# Altium schematic symbol library WaveRadio.SchLib: 19 symbols
Pins are listed as number, name and electrical type; pins without a type are passive.

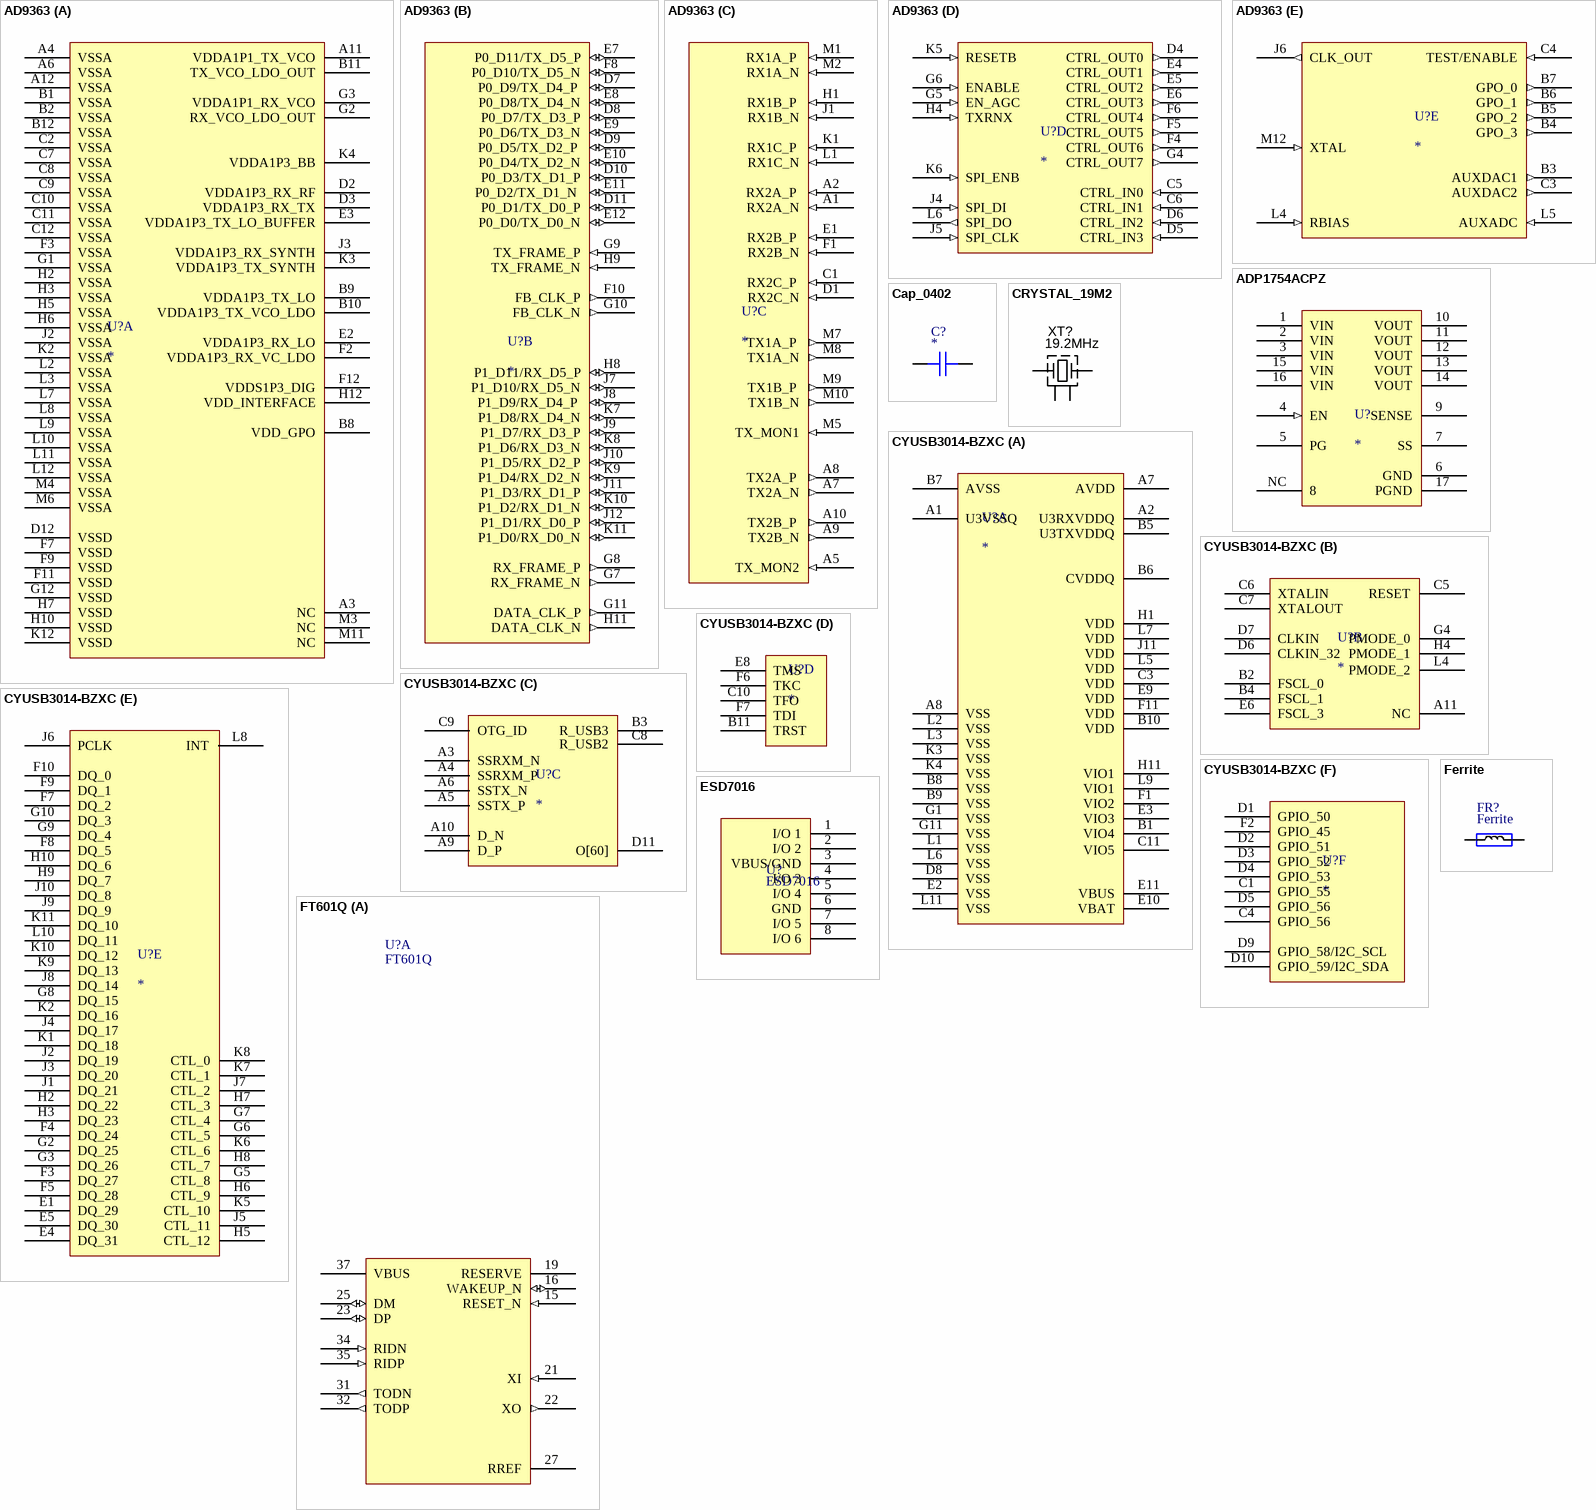
[diagram p0: symbols AD9363 to FT601Q]

## AD9363
designator U?
footprint BGA144C80P12X12_1000X1000X100 (BGA, 144-Leads, Body 10.00x10.00mmx1.00mm, Pitch 0.80mm)
part A pins: A3 NC (power), A4 VSSA (power), A6 VSSA (power), A11 VDDA1P1_TX_VCO (power), A12 VSSA (power), B1 VSSA (power), B2 VSSA (power), B8 VDD_GPO (power), B9 VDDA1P3_TX_LO (power), B10 VDDA1P3_TX_VCO_LDO (power), B11 TX_VCO_LDO_OUT (power), B12 VSSA (power), C2 VSSA (power), C7 VSSA (power), C8 VSSA (power), C9 VSSA (power), C10 VSSA (power), C11 VSSA (power), C12 VSSA (power), D2 VDDA1P3_RX_RF (power), D3 VDDA1P3_RX_TX (power), D12 VSSD (power), E2 VDDA1P3_RX_LO (power), E3 VDDA1P3_TX_LO_BUFFER (power), F2 VDDA1P3_RX_VC_LDO (power), F3 VSSA (power), F7 VSSD (power), F9 VSSD (power), F11 VSSD (power), F12 VDDS1P3_DIG (power), G1 VSSA (power), G2 RX_VCO_LDO_OUT (power), G3 VDDA1P1_RX_VCO (power), G12 VSSD (power), H2 VSSA (power), H3 VSSA (power), H5 VSSA (power), H6 VSSA (power), H7 VSSD (power), H10 VSSD (power), H12 VDD_INTERFACE (power), J2 VSSA (power), J3 VDDA1P3_RX_SYNTH (power), K2 VSSA (power), K3 VDDA1P3_TX_SYNTH (power), K4 VDDA1P3_BB (power), K12 VSSD (power), L2 VSSA (power), L3 VSSA (power), L7 VSSA (power), L8 VSSA (power), L9 VSSA (power), L10 VSSA (power), L11 VSSA (power), L12 VSSA (power), M3 NC (power), M4 VSSA (power), M6 VSSA (power), M11 NC (power)
part B pins: D7 P0_D9/TX_D4_P  (io), D8 P0_D7/TX_D3_P (io), D9 P0_D5/TX_D2_P  (io), D10 P0_D3/TX_D1_P (io), D11 P0_D1/TX_D0_P (io), E7 P0_D11/TX_D5_P (io), E8 P0_D8/TX_D4_N (io), E9 P0_D6/TX_D3_N (io), E10 P0_D4/TX_D2_N (io), E11 P0_D2/TX_D1_N  (io), E12 P0_D0/TX_D0_N (io), F8 P0_D10/TX_D5_N (io), F10 FB_CLK_P (out), G7 RX_FRAME_N (out), G8 RX_FRAME_P (out), G9 TX_FRAME_P (in), G10 FB_CLK_N (out), G11 DATA_CLK_P (out), H8 P1_D11/RX_D5_P (io), H9 TX_FRAME_N (in), H11 DATA_CLK_N (out), J7 P1_D10/RX_D5_N (io), J8 P1_D9/RX_D4_P  (io), J9 P1_D7/RX_D3_P (io), J10 P1_D5/RX_D2_P (io), J11 P1_D3/RX_D1_P (io), J12 P1_D1/RX_D0_P (io), K7 P1_D8/RX_D4_N (io), K8 P1_D6/RX_D3_N (io), K9 P1_D4/RX_D2_N (io), K10 P1_D2/RX_D1_N (io), K11 P1_D0/RX_D0_N (io)
part C pins: A1 RX2A_N (in), A2 RX2A_P  (in), A5 TX_MON2 (in), A7 TX2A_N (out), A8 TX2A_P  (out), A9 TX2B_N (out), A10 TX2B_P  (out), C1 RX2C_P  (in), D1 RX2C_N (in), E1 RX2B_P  (in), F1 RX2B_N (in), H1 RX1B_P  (in), J1 RX1B_N (in), K1 RX1C_P  (in), L1 RX1C_N (in), M1 RX1A_P  (in), M2 RX1A_N (in), M5 TX_MON1 (in), M7 TX1A_P  (out), M8 TX1A_N (out), M9 TX1B_P  (out), M10 TX1B_N (out)
part D pins: C5 CTRL_IN0 (in), C6 CTRL_IN1 (in), D4 CTRL_OUT0 (out), D5 CTRL_IN3 (in), D6 CTRL_IN2 (in), E4 CTRL_OUT1 (out), E5 CTRL_OUT2 (out), E6 CTRL_OUT3 (out), F4 CTRL_OUT6 (out), F5 CTRL_OUT5 (out), F6 CTRL_OUT4 (out), G4 CTRL_OUT7 (out), G5 EN_AGC (in), G6 ENABLE (in), H4 TXRNX (in), J4 SPI_DI (in), J5 SPI_CLK (in), K5 RESETB (in), K6 SPI_ENB (in), L6 SPI_DO (out)
part E pins: B3 AUXDAC1 (out), B4 GPO_3 (out), B5 GPO_2 (out), B6 GPO_1 (out), B7 GPO_0 (out), C3 AUXDAC2 (out), C4 TEST/ENABLE (in), J6 CLK_OUT (out), L4 RBIAS (in), L5 AUXADC (in), M12 XTAL (in)

## ADP1754ACPZ
designator U?
footprint QFN65P400X400X80_HS-17N (QFN, 16-Leads, Body 4.00x4.00mm, Pitch 0.65mm, Thermal Pad 2.10x2.10mm, IPC Medium Density)
pins: 1 VIN, 2 VIN, 3 VIN, 4 EN (in), 5 PG, 6 GND, 7 SS, 9 SENSE, 10 VOUT, 11 VOUT, 12 VOUT, 13 VOUT, 14 VOUT, 15 VIN, 16 VIN, 17 PGND, NC 8

## Cap_0402
designator C?
Value: *
footprint CAP0402 (Chip Capacitor, Body 1.0x0.5mm, 0402, IPC Medium Density)
pins: 1, 2

## CRYSTAL_19M2
designator XT?, comment 19.2MHz
Oscillator Crystal 27.12 MHz 10ppm; Manufacturer 1: TXC CORPORATION; Manufacturer Part Number 1: 7M-27.120MEEQ-T; Ratings: 4.9152 MHz Crystal; Load Capacitance: 10pF; Operating Mode: Fundamental; Package / Case: 2.5mm pitch; Material: Ceramic; Supplier 1: Digi-Key; Supplier Part Number 1: 887-1329-1-ND; Type: MHz Crystal; Frequency Stability: ±10ppm; Frequency Tolerance: ±10ppm; Operating Temperature: -20°C ~ 70°C; Mounting Type: Surface Mount; Size / Dimension: 0.126" L x 0.098" W (3.20mm x 2.50mm); ComponentLink1URL: http://www.txccrystal.com/images/pdf/7m-accuracy.pdf; ComponentLink1Description: http://www.txccrystal.com/images/pdf/7m-accuracy.pdf
footprint CRYSTAL_4-LCC (SMD Crystal 4-lead leadless package)
pins: 1 X, 2 GND, 3 X, 4 GND

## CYUSB3014-BZXC
designator U?
part A pins: A1 U3VSSQ, A2 U3RXVDDQ, A7 AVDD, A8 VSS, B1 VIO4 (power), B5 U3TXVDDQ, B6 CVDDQ, B7 AVSS, B8 VSS, B9 VSS, B10 VDD, C3 VDD, C11 VIO5, D8 VSS, E2 VSS, E3 VIO3, E9 VDD, E10 VBAT, E11 VBUS, F1 VIO2, F11 VDD, G1 VSS, G11 VSS, H1 VDD, H11 VIO1, J11 VDD, K3 VSS, K4 VSS, L1 VSS, L2 VSS, L3 VSS (power), L5 VDD, L6 VSS, L7 VDD, L9 VIO1, L11 VSS
part B pins: A11 NC, B2 FSCL_0, B4 FSCL_1, C5 RESET, C6 XTALIN, C7 XTALOUT, D6 CLKIN_32, D7 CLKIN, E6 FSCL_3, G4 PMODE_0, H4 PMODE_1, L4 PMODE_2
part C pins: A3 SSRXM_N, A4 SSRXM_P, A5 SSTX_P, A6 SSTX_N, A9 D_P, A10 D_N, B3 R_USB3, C8 R_USB2, C9 OTG_ID, D11 O[60]
part D pins: B11 TRST, C10 TFO, E8 TMS, F6 TKC, F7 TDI
part E pins: E1 DQ_29, E4 DQ_31, E5 DQ_30, F3 DQ_27, F4 DQ_24, F5 DQ_28, F7 DQ_2, F8 DQ_5, F9 DQ_1, F10 DQ_0, G2 DQ_25, G3 DQ_26, G5 CTL_8, G6 CTL_5, G7 CTL_4, G8 DQ_15, G9 DQ_4, G10 DQ_3, H2 DQ_22, H3 DQ_23, H5 CTL_12, H6 CTL_9, H7 CTL_3, H8 CTL_7, H9 DQ_7, H10 DQ_6, J1 DQ_21, J2 DQ_19, J3 DQ_20, J4 DQ_17, J5 CTL_11, J6 PCLK, J7 CTL_2, J8 DQ_14, J9 DQ_9, J10 DQ_8, K1 DQ_18, K2 DQ_16, K5 CTL_10, K6 CTL_6, K7 CTL_1, K8 CTL_0, K9 DQ_13, K10 DQ_12, K11 DQ_10, L8 INT, L10 DQ_11
part F pins: C1 GPIO_55, C4 GPIO_56, D1 GPIO_50, D2 GPIO_51, D3 GPIO_52, D4 GPIO_53, D5 GPIO_56, D9 GPIO_58/I2C_SCL, D10 GPIO_59/I2C_SDA, F2 GPIO_45

## ESD7016
designator U?
Manufacturer Part Number 1: ESD7016MUTAG; Manufacturer: ON Semiconductor; Unidirectional Channels: 8; Capacitance @ Frequency: 0.15pF @ 1MHz; Power Line Protection: No; Voltage - Reverse Standoff (Typ): 5V (Max); Voltage - Breakdown (Min): 5.5V; Current - Peak Pulse (10/1000µs): 1A (8/20µs); Voltage - Clamping (Max) @ Ipp: 10V; Supplier 1: Digi-Key; Category: Circuit Protection; RoHS: RoHS Compliant; Bidirectional Channels: -; Packaging: Digi-Reel®; Type: Zener; Operating Temperature: -55°C ~ 125°C (TJ); Mounting Type: Surface Mount; Power - Peak Pulse: -; Package / Case: 8-UFSFN; Supplier Device Package: 8-UDFN (3.3x1.0); Applications: General Purpose; Supplier Part Number 1: ESD7016MUTAGOSDKR-ND
footprint ESD7016
pins: 1 I/O 1, 2 I/O 2, 3 VBUS/GND, 4 I/O 3, 5 I/O 4, 6 GND, 7 I/O 5, 8 I/O 6

## Ferrite
designator FR?
footprint RES0402 (Chip Resistor, Body 1.0x0.5mm, EIA 0402, IPC Medium Density)
pins: 1, 2

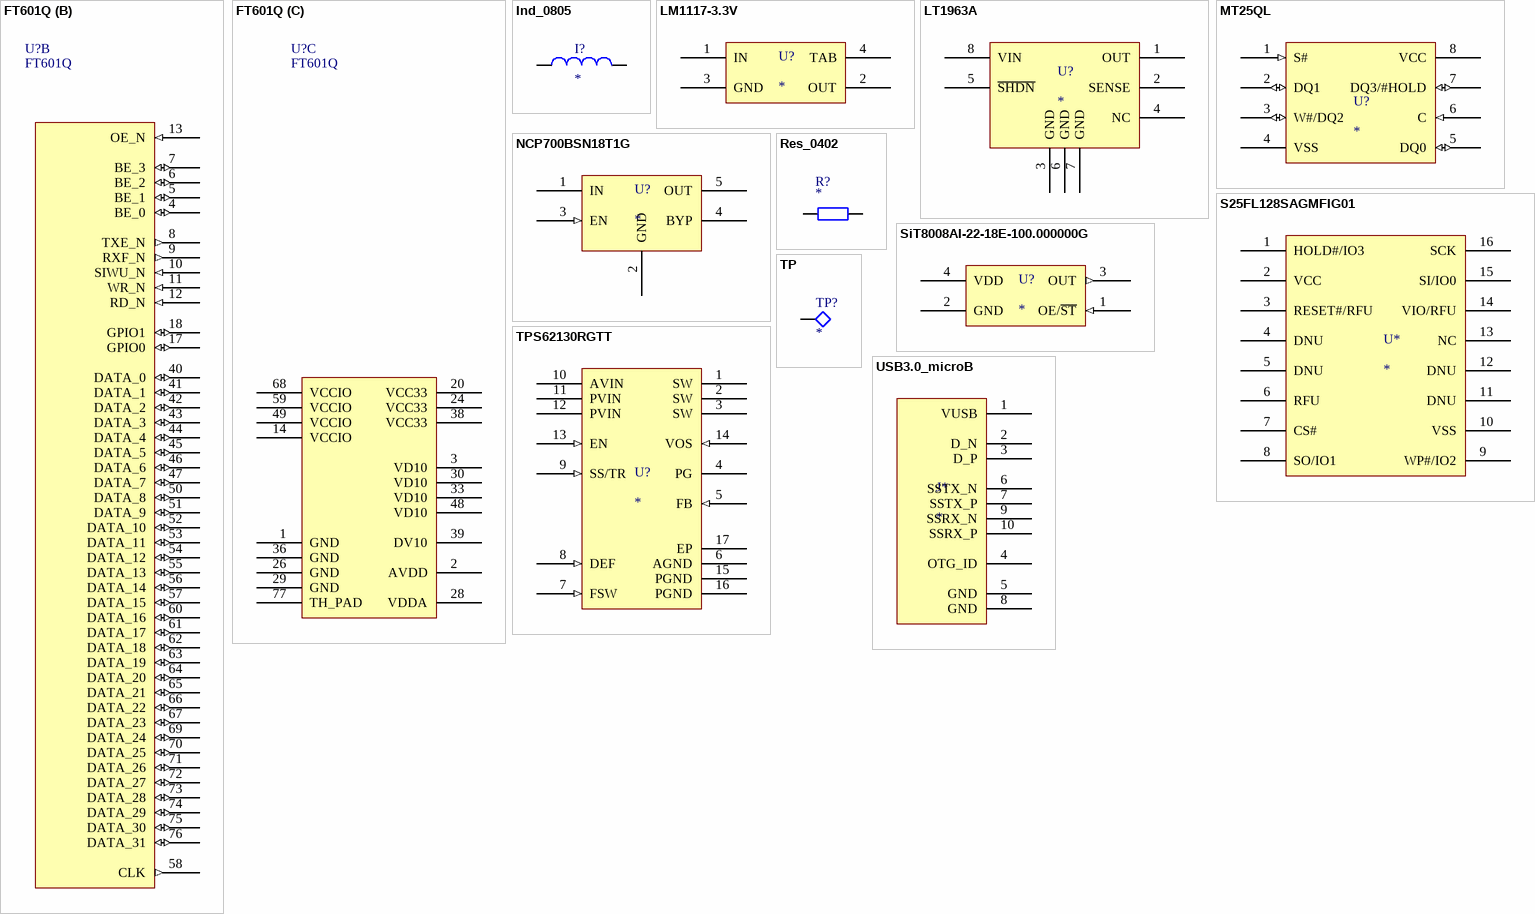
[diagram p1: symbols FT601Q to USB3.0_microB]

## FT601Q
designator U?
Manufacturer: FTDI, Future Technology Devices International Ltd; Manufacturer Part Number 1: FT601Q-T; Function: Bridge, USB to FIFO; Standards: USB 3.0; Voltage - Supply: 1.65 V ~ 3.6 V; Protocol: USB; Interface: FIFO; Supplier 1: Digi-Key; Operating Temperature: -40°C ~ 85°C; Packaging: Tray; Category: Integrated Circuits (ICs); Package / Case: 76-VFQFN Exposed Pad; Supplier Device Package: 76-QFN (9x9); Current - Supply: -; RoHS: RoHS Compliant; Supplier Part Number 1: 768-1252-ND
footprint FT601Q (QFN, 76-Leads, Body 9,05x9,05mm, Pitch 0,40mm, Thermal Pad 5,55x5,55mm, IPC High Density)
part A pins: 15 RESET_N (in), 16 WAKEUP_N (io), 19 RESERVE, 21 XI (in), 22 XO (out), 23 DP (io), 25 DM (io), 27 RREF, 31 TODN (out), 32 TODP (out), 34 RIDN (in), 35 RIDP (in), 37 VBUS
part B pins: 4 BE_0 (io), 5 BE_1 (io), 6 BE_2 (io), 7 BE_3 (io), 8 TXE_N (out), 9 RXF_N (out), 10 SIWU_N (in), 11 WR_N (in), 12 RD_N (in), 13 OE_N (in), 17 GPIO0 (io), 18 GPIO1 (io), 40 DATA_0 (io), 41 DATA_1 (io), 42 DATA_2 (io), 43 DATA_3 (io), 44 DATA_4 (io), 45 DATA_5 (io), 46 DATA_6 (io), 47 DATA_7 (io), 50 DATA_8 (io), 51 DATA_9 (io), 52 DATA_10 (io), 53 DATA_11 (io), 54 DATA_12 (io), 55 DATA_13 (io), 56 DATA_14 (io), 57 DATA_15 (io), 58 CLK (out), 60 DATA_16 (io), 61 DATA_17 (io), 62 DATA_18 (io), 63 DATA_19 (io), 64 DATA_20 (io), 65 DATA_21 (io), 66 DATA_22 (io), 67 DATA_23 (io), 69 DATA_24 (io), 70 DATA_25 (io), 71 DATA_26 (io), 72 DATA_27 (io), 73 DATA_28 (io), 74 DATA_29 (io), 75 DATA_30 (io), 76 DATA_31 (io)
part C pins: 1 GND, 2 AVDD, 3 VD10, 14 VCCIO, 20 VCC33, 24 VCC33, 26 GND, 28 VDDA, 29 GND, 30 VD10, 33 VD10, 36 GND, 38 VCC33, 39 DV10, 48 VD10, 49 VCCIO, 59 VCCIO, 68 VCCIO, 77 TH_PAD

## Ind_0805
designator I?
Value: *
pins: 1, 2

## LM1117-3.3V
designator U?
pins: 1 IN (power), 2 OUT (power), 3 GND (power), 4 TAB (power)

## LT1963A
designator U?
pins: 1 OUT, 2 SENSE, 3 GND, 4 NC, 5 ~{SHDN}, 6 GND, 7 GND, 8 VIN

## MT25QL
designator U?
footprint SOIC127P760X191-8N (SOIC, 8-Leads, Body 5.29x5.29mm, Pitch 1.27mm, IPC Medium Density)
pins: 1 S# (in), 2 DQ1 (io), 3 W#/DQ2 (io), 4 VSS, 5 DQ0 (io), 6 C (in), 7 DQ3/#HOLD (io), 8 VCC

## NCP700BSN18T1G
designator U?
pins: 1 IN, 2 GND, 3 EN (in), 4 BYP, 5 OUT

## Res_0402
designator R?
Value: *
footprint RES0402 (Chip Resistor, Body 1.0x0.5mm, EIA 0402, IPC Medium Density)
pins: 1, 2

## S25FL128SAGMFIG01
designator U*
pins: 1 HOLD#/IO3, 2 VCC, 3 RESET#/RFU, 4 DNU, 5 DNU, 6 RFU, 7 CS#, 8 SO/IO1, 9 WP#/IO2, 10 VSS, 11 DNU, 12 DNU, 13 NC, 14 VIO/RFU, 15 SI/IO0, 16 SCK

## SiT8008AI-22-18E-100.000000G
designator U?
pins: 1 OE/~{ST} (in), 2 GND, 3 OUT (out), 4 VDD

## TP
designator TP?
pins: 1 NC

## TPS62130RGTT
designator U?
footprint QFN50P300X300X80_HS-17N (QFN, 16-Leads, Body 3.00x3.00mm, Pitch 0.50mm, Thermal Pad 1.68x1.68mm, IPC Medium Density)
pins: 1 SW, 2 SW, 3 SW, 4 PG, 5 FB (in), 6 AGND, 7 FSW (in), 8 DEF (in), 9 SS/TR (in), 10 AVIN, 11 PVIN, 12 PVIN, 13 EN (in), 14 VOS (in), 15 PGND, 16 PGND, 17 EP

## USB3.0_microB
designator J*
footprint microUSB3B_SM
pins: 1 VUSB, 2 D_N, 3 D_P, 4 OTG_ID, 5 GND, 6 SSTX_N, 7 SSTX_P, 8 GND, 9 SSRX_N, 10 SSRX_P